# Altium footprint library Footprints.PcbLib: 12 footprints
Each footprint in its own frame and in the unit in brackets; x right, y up, seen from the top. Pads: shape width x height; smd on the part's side, far side on the other; paste and mask are expansions set on the pad; w line width, h text height; cw(c..) or ccw(c..) is an arc to the next point about the centre after c.
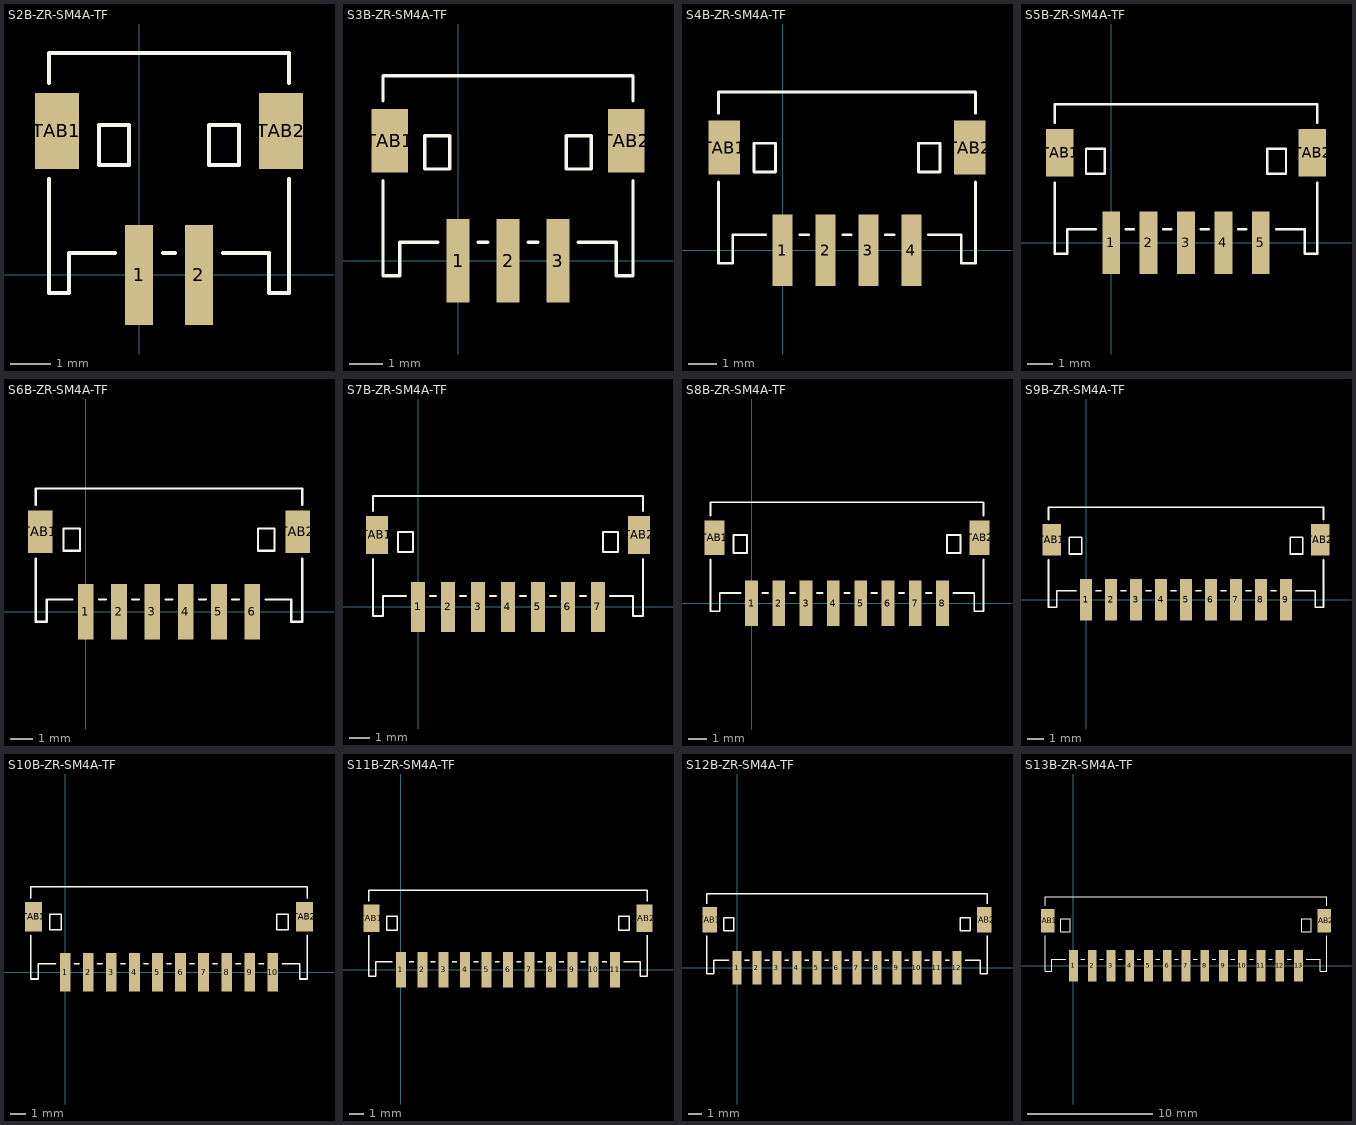
[diagram p0: the footprints below, top view; thin cyan lines are the x and y axes]

## S2B-ZR-SM4A-TF [mm] "2P 1.5mm Polar Male Right Angle Shrouded SMD JST"
height 3.7
pads (4):
  rect 0.7x2.5 smd: 1(0,0) 2(1.5,0)
  rect 1.1x1.9 smd: TAB1(-2.05,3.6) TAB2(3.55,3.6)
Top Overlay:
  lines w0.1: -2.25,2.4 -2.25,-0.45 -1.75,-0.45 -1.75,0.55 -0.6,0.55 ; -2.25,4.8 -2.25,5.55 3.75,5.55 3.75,4.8 ; 0.6,0.55 0.9,0.55 ; 2.1,0.55 3.25,0.55 3.25,-0.45 3.75,-0.45 3.75,2.4 ; -1,2.75 -0.25,2.75 -0.25,3.75 -1,3.75 -1,2.75 ; 1.75,2.75 2.5,2.75 2.5,3.75 1.75,3.75 1.75,2.75
3D body "S2B-ZR-SM4A-TF.STEP": height 3.7, standoff 0, extent -2.25,-0.95 3.75,5.55

## S3B-ZR-SM4A-TF [mm] "3P 1.5mm Polar Male Right Angle Shrouded SMD JST"
height 3.7
pads (5):
  rect 0.7x2.5 smd: 1(0,0) 2(1.5,0) 3(3,0)
  rect 1.1x1.9 smd: TAB1(-2.05,3.6) TAB2(5.05,3.6)
Top Overlay:
  lines w0.1: -2.25,2.4 -2.25,-0.45 -1.75,-0.45 -1.75,0.55 -0.6,0.55 ; -2.25,4.8 -2.25,5.55 5.25,5.55 5.25,4.8 ; 0.6,0.55 0.9,0.55 ; 2.1,0.55 2.4,0.55 ; 3.6,0.55 4.75,0.55 4.75,-0.45 5.25,-0.45 5.25,2.4 ; -1,2.75 -1,3.75 -0.25,3.75 -0.25,2.75 -1,2.75 ; 3.25,2.75 4,2.75 4,3.75 3.25,3.75 3.25,2.75
3D body "S3B-ZR-SM4A-TF.STEP": height 3.7, standoff 0, extent -2.25,-0.95 5.25,5.55

## S4B-ZR-SM4A-TF [mm] "4P 1.5mm Polar Male Right Angle Shrouded SMD JST"
height 3.7
pads (6):
  rect 0.7x2.5 smd: 1(0,0) 2(1.5,0) 3(3,0) 4(4.5,0)
  rect 1.1x1.9 smd: TAB1(-2.05,3.6) TAB2(6.55,3.6)
Top Overlay:
  lines w0.1: -2.25,2.4 -2.25,-0.45 -1.75,-0.45 -1.75,0.55 -0.6,0.55 ; -2.25,4.8 -2.25,5.55 6.75,5.55 6.75,4.8 ; 0.6,0.55 0.9,0.55 ; 2.1,0.55 2.4,0.55 ; 3.6,0.55 3.9,0.55 ; 5.1,0.55 6.25,0.55 6.25,-0.45 6.75,-0.45 6.75,2.4 ; -1,2.75 -0.25,2.75 -0.25,3.75 -1,3.75 -1,2.75 ; 4.75,2.75 5.5,2.75 5.5,3.75 4.75,3.75 4.75,2.75
3D body "S4B-ZR-SM4A-TF.STEP": height 3.7, standoff 0, extent -2.25,-0.95 6.75,5.55

## S5B-ZR-SM4A-TF [mm] "5P 1.5mm Polar Male Right Angle Shrouded SMD JST"
height 3.7
pads (7):
  rect 0.7x2.5 smd: 1(0,0) 2(1.5,0) 3(3,0) 4(4.5,0) 5(6,0)
  rect 1.1x1.9 smd: TAB1(-2.05,3.6) TAB2(8.05,3.6)
Top Overlay:
  lines w0.1: -2.25,2.4 -2.25,-0.45 -1.75,-0.45 -1.75,0.55 -0.6,0.55 ; -2.25,4.8 -2.25,5.55 8.25,5.55 8.25,4.8 ; 0.6,0.55 0.9,0.55 ; 2.1,0.55 2.4,0.55 ; 3.6,0.55 3.9,0.55 ; 5.1,0.55 5.4,0.55 ; 6.6,0.55 7.75,0.55 7.75,-0.45 8.25,-0.45 8.25,2.4 ; -1,2.75 -0.25,2.75 -0.25,3.75 -1,3.75 -1,2.75 ; 6.25,2.75 6.25,3.75 7,3.75 7,2.75 6.25,2.75
3D body "S5B-ZR-SM4A-TF.STEP": height 3.7, standoff 0, extent -2.25,-0.95 8.25,5.55

## S6B-ZR-SM4A-TF [mm] "6P 1.5mm Polar Male Right Angle Shrouded SMD JST"
height 3.7
pads (8):
  rect 0.7x2.5 smd: 1(0,0) 2(1.5,0) 3(3,0) 4(4.5,0) 5(6,0) 6(7.5,0)
  rect 1.1x1.9 smd: TAB1(-2.05,3.6) TAB2(9.55,3.6)
Top Overlay:
  lines w0.1: -2.25,2.4 -2.25,-0.45 -1.75,-0.45 -1.75,0.55 -0.6,0.55 ; -2.25,4.8 -2.25,5.55 9.75,5.55 9.75,4.8 ; 0.6,0.55 0.9,0.55 ; 2.1,0.55 2.4,0.55 ; 3.6,0.55 3.9,0.55 ; 5.1,0.55 5.4,0.55 ; 6.6,0.55 6.9,0.55 ; 8.1,0.55 9.25,0.55 9.25,-0.45 9.75,-0.45 9.75,2.4 ; -1,2.75 -0.25,2.75 -0.25,3.75 -1,3.75 -1,2.75 ; 7.75,2.75 8.5,2.75 8.5,3.75 7.75,3.75 7.75,2.75
3D body "S6B-ZR-SM4A-TF.STEP": height 3.7, standoff 0, extent -2.25,-0.95 9.75,5.55

## S7B-ZR-SM4A-TF [mm] "7P 1.5mm Polar Male Right Angle Shrouded SMD JST"
height 3.7
pads (9):
  rect 0.7x2.5 smd: 1(0,0) 2(1.5,0) 3(3,0) 4(4.5,0) 5(6,0) 6(7.5,0) 7(9,0)
  rect 1.1x1.9 smd: TAB1(-2.05,3.6) TAB2(11.05,3.6)
Top Overlay:
  lines w0.1: -2.25,2.4 -2.25,-0.45 -1.75,-0.45 -1.75,0.55 -0.6,0.55 ; -2.25,4.8 -2.25,5.55 11.25,5.55 11.25,4.8 ; 0.6,0.55 0.9,0.55 ; 2.1,0.55 2.4,0.55 ; 3.6,0.55 3.9,0.55 ; 5.1,0.55 5.4,0.55 ; 6.6,0.55 6.9,0.55 ; 8.1,0.55 8.4,0.55 ; 9.6,0.55 10.75,0.55 10.75,-0.45 11.25,-0.45 11.25,2.4 ; -1,2.75 -0.25,2.75 -0.25,3.75 -1,3.75 -1,2.75 ; 9.25,2.75 9.25,3.75 10,3.75 10,2.75 9.25,2.75
3D body "S7B-ZR-SM4A-TF.STEP": height 3.7, standoff 0, extent -2.25,-0.95 11.25,5.55

## S8B-ZR-SM4A-TF [mm] "8P 1.5mm Polar Male Right Angle Shrouded SMD JST"
height 3.7
pads (10):
  rect 0.7x2.5 smd: 1(0,0) 2(1.5,0) 3(3,0) 4(4.5,0) 5(6,0) 6(7.5,0) 7(9,0) 8(10.5,0)
  rect 1.1x1.9 smd: TAB1(-2.05,3.6) TAB2(12.55,3.6)
Top Overlay:
  lines w0.1: -2.25,2.4 -2.25,-0.45 -1.75,-0.45 -1.75,0.55 -0.6,0.55 ; -2.25,4.8 -2.25,5.55 12.75,5.55 12.75,4.8 ; 0.6,0.55 0.9,0.55 ; 2.1,0.55 2.4,0.55 ; 3.6,0.55 3.9,0.55 ; 5.1,0.55 5.4,0.55 ; 6.6,0.55 6.9,0.55 ; 8.1,0.55 8.4,0.55 ; 9.6,0.55 9.9,0.55 ; 11.1,0.55 12.25,0.55 12.25,-0.45 12.75,-0.45 12.75,2.4 ; -1,2.75 -0.25,2.75 -0.25,3.75 -1,3.75 -1,2.75 ; 10.75,2.75 11.5,2.75 11.5,3.75 10.75,3.75 10.75,2.75
3D body "S8B-ZR-SM4A-TF.STEP": height 3.7, standoff 0, extent -2.25,-0.95 12.75,5.55

## S9B-ZR-SM4A-TF [mm] "9P 1.5mm Polar Male Right Angle Shrouded SMD JST"
height 3.7
pads (11):
  rect 0.7x2.5 smd: 1(0,0) 2(1.5,0) 3(3,0) 4(4.5,0) 5(6,0) 6(7.5,0) 7(9,0) 8(10.5,0) 9(12,0)
  rect 1.1x1.9 smd: TAB1(-2.05,3.6) TAB2(14.05,3.6)
Top Overlay:
  lines w0.1: -2.25,2.4 -2.25,-0.45 -1.75,-0.45 -1.75,0.55 -0.6,0.55 ; -2.25,4.8 -2.25,5.55 14.25,5.55 14.25,4.8 ; 0.6,0.55 0.9,0.55 ; 2.1,0.55 2.4,0.55 ; 3.6,0.55 3.9,0.55 ; 5.1,0.55 5.4,0.55 ; 6.6,0.55 6.9,0.55 ; 8.1,0.55 8.4,0.55 ; 9.6,0.55 9.9,0.55 ; 11.1,0.55 11.4,0.55 ; 12.6,0.55 13.75,0.55 13.75,-0.45 14.25,-0.45 14.25,2.4 ; -1,2.75 -0.25,2.75 -0.25,3.75 -1,3.75 -1,2.75 ; 12.25,2.75 12.25,3.75 13,3.75 13,2.75 12.25,2.75
3D body "S9B-ZR-SM4A-TF.STEP": height 3.7, standoff 0, extent -2.25,-0.95 14.25,5.55

## S10B-ZR-SM4A-TF [mm] "10P 1.5mm Polar Male Right Angle Shrouded SMD JST"
height 3.7
pads (12):
  rect 0.7x2.5 smd: 1(0,0) 2(1.5,0) 3(3,0) 4(4.5,0) 5(6,0) 6(7.5,0) 7(9,0) 8(10.5,0) 9(12,0) 10(13.5,0)
  rect 1.1x1.9 smd: TAB1(-2.05,3.6) TAB2(15.55,3.6)
Top Overlay:
  lines w0.1: -2.25,2.4 -2.25,-0.45 -1.75,-0.45 -1.75,0.55 -0.6,0.55 ; -2.25,4.8 -2.25,5.55 15.75,5.55 15.75,4.8 ; 0.6,0.55 0.9,0.55 ; 2.1,0.55 2.4,0.55 ; 3.6,0.55 3.9,0.55 ; 5.1,0.55 5.4,0.55 ; 6.6,0.55 6.9,0.55 ; 8.1,0.55 8.4,0.55 ; 9.6,0.55 9.9,0.55 ; 11.1,0.55 11.4,0.55 ; 12.6,0.55 12.9,0.55 ; 14.1,0.55 15.25,0.55 15.25,-0.45 15.75,-0.45 15.75,2.4 ; -1,2.75 -1,3.75 -0.25,3.75 -0.25,2.75 -1,2.75 ; 13.75,2.75 13.75,3.75 14.5,3.75 14.5,2.75 13.75,2.75
3D body "S10B-ZR-SM4A-TF.STEP": height 3.7, standoff 0, extent -2.25,-0.95 15.75,5.55

## S11B-ZR-SM4A-TF [mm] "11P 1.5mm Polar Male Right Angle Shrouded SMD JST"
height 3.7
pads (13):
  rect 0.7x2.5 smd: 1(0,0) 2(1.5,0) 3(3,0) 4(4.5,0) 5(6,0) 6(7.5,0) 7(9,0) 8(10.5,0) 9(12,0) 10(13.5,0) 11(15,0)
  rect 1.1x1.9 smd: TAB1(-2.05,3.6) TAB2(17.05,3.6)
Top Overlay:
  lines w0.1: -2.25,2.4 -2.25,-0.45 -1.75,-0.45 -1.75,0.55 -0.6,0.55 ; -2.25,4.8 -2.25,5.55 17.25,5.55 17.25,4.8 ; 0.6,0.55 0.9,0.55 ; 2.1,0.55 2.4,0.55 ; 3.6,0.55 3.9,0.55 ; 5.1,0.55 5.4,0.55 ; 6.6,0.55 6.9,0.55 ; 8.1,0.55 8.4,0.55 ; 9.6,0.55 9.9,0.55 ; 11.1,0.55 11.4,0.55 ; 12.6,0.55 12.9,0.55 ; 14.1,0.55 14.4,0.55 ; 15.6,0.55 16.75,0.55 16.75,-0.45 17.25,-0.45 17.25,2.4 ; -1,2.75 -1,3.75 -0.25,3.75 -0.25,2.75 -1,2.75 ; 15.25,2.75 16,2.75 16,3.75 15.25,3.75 15.25,2.75
3D body "S11B-ZR-SM4A-TF.STEP": height 3.7, standoff 0, extent -2.25,-0.95 17.25,5.55

## S12B-ZR-SM4A-TF [mm] "12P 1.5mm Polar Male Right Angle Shrouded SMD JST"
height 3.7
pads (14):
  rect 0.7x2.5 smd: 1(0,0) 2(1.5,0) 3(3,0) 4(4.5,0) 5(6,0) 6(7.5,0) 7(9,0) 8(10.5,0) 9(12,0) 10(13.5,0) 11(15,0) 12(16.5,0)
  rect 1.1x1.9 smd: TAB1(-2.05,3.6) TAB2(18.55,3.6)
Top Overlay:
  lines w0.1: -2.25,2.4 -2.25,-0.45 -1.75,-0.45 -1.75,0.55 -0.6,0.55 ; -2.25,4.8 -2.25,5.55 18.75,5.55 18.75,4.8 ; 0.6,0.55 0.9,0.55 ; 2.1,0.55 2.4,0.55 ; 3.6,0.55 3.9,0.55 ; 5.1,0.55 5.4,0.55 ; 6.6,0.55 6.9,0.55 ; 8.1,0.55 8.4,0.55 ; 9.6,0.55 9.9,0.55 ; 11.1,0.55 11.4,0.55 ; 12.6,0.55 12.9,0.55 ; 14.1,0.55 14.4,0.55 ; 15.6,0.55 15.9,0.55 ; 17.1,0.55 18.25,0.55 18.25,-0.45 18.75,-0.45 18.75,2.4 ; -1,2.75 -1,3.75 -0.25,3.75 -0.25,2.75 -1,2.75 ; 16.75,2.75 16.75,3.75 17.5,3.75 17.5,2.75 16.75,2.75
3D body "S12B-ZR-SM4A-TF.STEP": height 3.7, standoff 0, extent -2.25,-0.95 18.75,5.55

## S13B-ZR-SM4A-TF [mm] "13P 1.5mm Polar Male Right Angle Shrouded SMD JST"
height 3.7
pads (15):
  rect 0.7x2.5 smd: 1(0,0) 2(1.5,0) 3(3,0) 4(4.5,0) 5(6,0) 6(7.5,0) 7(9,0) 8(10.5,0) 9(12,0) 10(13.5,0) 11(15,0) 12(16.5,0) 13(18,0)
  rect 1.1x1.9 smd: TAB1(-2.05,3.6) TAB2(20.05,3.6)
Top Overlay:
  lines w0.1: -2.25,2.4 -2.25,-0.45 -1.75,-0.45 -1.75,0.55 -0.6,0.55 ; -2.25,4.8 -2.25,5.55 20.25,5.55 20.25,4.8 ; 0.6,0.55 0.9,0.55 ; 2.1,0.55 2.4,0.55 ; 3.6,0.55 3.9,0.55 ; 5.1,0.55 5.4,0.55 ; 6.6,0.55 6.9,0.55 ; 8.1,0.55 8.4,0.55 ; 9.6,0.55 9.9,0.55 ; 11.1,0.55 11.4,0.55 ; 12.6,0.55 12.9,0.55 ; 14.1,0.55 14.4,0.55 ; 15.6,0.55 15.9,0.55 ; 17.1,0.55 17.4,0.55 ; 18.6,0.55 19.75,0.55 19.75,-0.45 20.25,-0.45 20.25,2.4 ; -1,2.75 -0.25,2.75 -0.25,3.75 -1,3.75 -1,2.75 ; 18.25,2.75 18.25,3.75 19,3.75 19,2.75 18.25,2.75
3D body "S13B-ZR-SM4A-TF.STEP": height 3.7, standoff 0, extent -2.25,-0.95 20.25,5.55